# Altium footprint library 78xx.PcbLib: 1 footprints
Each footprint in its own frame and in the unit in brackets; x right, y up, seen from the top. Pads: shape width x height; smd on the part's side, far side on the other; paste and mask are expansions set on the pad; w line width, h text height; cw(c..) or ccw(c..) is an arc to the next point about the centre after c.
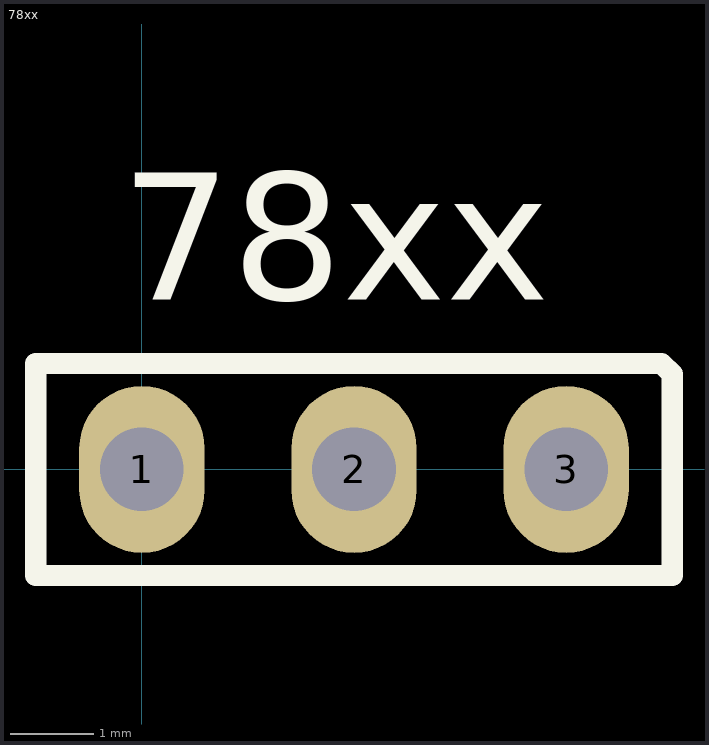
[diagram p0: the footprint, top view; thin cyan lines are the x and y axes]

## 78xx [mm]
pads (3):
  oval 1.5x2 hole 1: 1(0,0) 2(2.54,0) 3(5.08,0)
Top Overlay:
  lines w0.254: -1.27,-1.27 6.35,-1.27 6.35,1.143 6.223,1.27 -1.27,1.27 -1.27,-1.27
  text "78xx" at -0.254,2.032 h1.52